# Altium schematic symbol library SENSORS.SchLib: 5 symbols
Pins are listed as number, name and electrical type; pins without a type are passive.

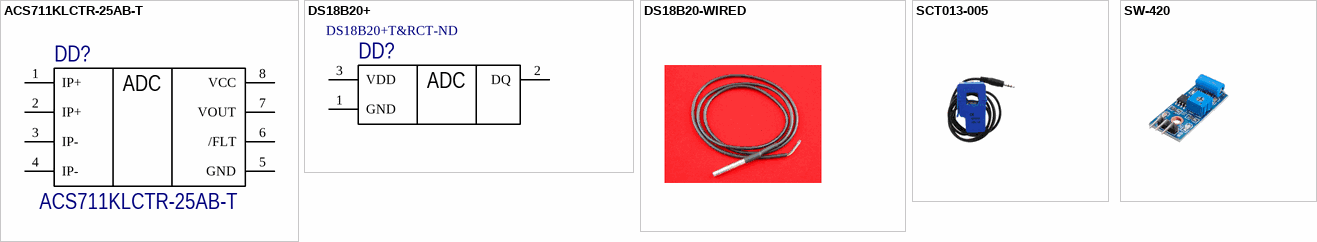
[diagram p0: symbols ACS711KLCTR-25AB-T to SW-420]

## ACS711KLCTR-25AB-T
designator DD?
Hall Effect Sensor Latch 3.3V 8-Pin SOIC T/R; Manufacturer: Allegro MicroSystems; TH: 1; Max Supply Current: 5.5mA; Bandwidth: 100kHz; Min Supply Voltage: 3V; Max Supply Voltage: 5.5V; Response Time: 4.6us; Polarity: Bidirectional; Quiescent Current: 4mA; Linearity: 1%; Accuracy: 4%; Current Sensing: 25A; Sensitivity: 55mV/A; Manufacturer Part Number: ACS711KLCTR-25AB-T; Supplier 1: Digi-Key; RoHS: Yes; Category: Current Sensors; Stock 1: 3210; Pricing 1: 1=2,63000, 5=2,43800, 10=2,02500, 25=1,68760, 50=1,50000, 100=1,42500, 500=1,20000, 1000=1,12500 (USD); Case/Package: SOIC; Number of Pins: 8; Min Operating Temperature: -40°C; Max Operating Temperature: 125°C; Operating Supply Voltage: 3.3V; Package Quantity: 1; Number of Channels: 1; Frequency: 100kHz; -3db Bandwidth: 100kHz; Packaging: Tape and Reel; Length: 4.9mm; Width: 3.9mm; Height: 1.5mm; REACH SVHC: No SVHC; ComponentLink1URL: https://datasheet.ciiva.com/1165/1780806-1165091.pdf?src-supplier=Element14; ComponentLink1Description: https://datasheet.ciiva.com/1165/1780806-1165091.pdf?src-supplier=Element14; ComponentLink2URL: https://datasheet.ciiva.com/3277/acs711-datasheet-3277045.pdf?src-supplier=Avnet; ComponentLink2Description: https://datasheet.ciiva.com/3277/acs711-datasheet-3277045.pdf?src-supplier=Avnet; ComponentLink3URL: https://datasheet.ciiva.com/16636/acs711-datasheet-16636318.pdf?src-supplier=Avnet+Europe; ComponentLink3Description: https://datasheet.ciiva.com/16636/acs711-datasheet-16636318.pdf?src-supplier=Avnet+Europe; Supplier Part Number 1: 620-1373-1-ND
footprint SOIC127P600X175-8N (SOIC, 8-Leads, Body 4,90x3,90mm, Pitch 1,27mm, IPC Medium Density)
pins: 1 IP+, 2 IP+, 3 IP-, 4 IP-, 5 GND, 6 /FLT, 7 VOUT, 8 VCC
text: ADC

## DS18B20+
designator DD?  Supplier Part Number 1: DS18B20+T&RCT-ND
SENSOR DIGITAL -55C-125C TO92-3; Manufacturer: Maxim Integrated; TH: 1; Description: GLOVE, POLYAMIDE, L/FREE, PU, SIZE 6 - More Details; Max Supply Voltage: 5.5V; Min Supply Voltage: 3V; Interface: 1-WIRE,Serial; Resolution: 12b; Operating Supply Current: 1.5mA; Manufacturer Part Number: DS18B20+; Supplier 1: Digi-Key; RoHS: Yes; Category: Temperature and Humidity Sensors; Stock 1: 10974; Pricing 1: 1=4,20000, 10=3,77000, 25=3,56400, 100=3,08880, 500=2,62944, 1000=2,21760 (USD); Mount: Through Hole; Case/Package: TO-92-3; Number of Pins: 3; Contact Plating: Tin,Matte; Min Operating Temperature: -55°C; Max Operating Temperature: 125°C; Packaging: Tape and Reel; Package Quantity: 1; Max Supply Voltage (DC): 5.5V; Min Supply Voltage (DC): 3V; Output Type: Digital; Series: -; Supply Current: 1.5mA; Radiation Hardening: No; REACH SVHC: Unknown; Lead Free: Lead Free; RoHS Compliant: Yes; ComponentLink1URL: https://datasheet.ciiva.com/2005/ds18b20-2005157.pdf?src-supplier=Digi-Key; ComponentLink1Description: https://datasheet.ciiva.com/2005/ds18b20-2005157.pdf?src-supplier=Digi-Key; ComponentLink2URL: https://datasheet.ciiva.com/12147/ds18b20-370043-12147063.pdf?src-supplier=Mouser; ComponentLink2Description: https://datasheet.ciiva.com/12147/ds18b20-370043-12147063.pdf?src-supplier=Mouser; ComponentLink3URL: https://datasheet.ciiva.com/5299/ds18b20-370043-5299449.pdf?src-supplier=Mouser; ComponentLink3Description: https://datasheet.ciiva.com/5299/ds18b20-370043-5299449.pdf?src-supplier=Mouser; ComponentLink4URL: https://datasheet.ciiva.com/3278/ds18b20-3278459.pdf?src-supplier=Avnet; ComponentLink4Description: https://datasheet.ciiva.com/3278/ds18b20-3278459.pdf?src-supplier=Avnet; ComponentLink5URL: https://datasheet.ciiva.com/16635/ds18b20-16635310.pdf?src-supplier=Avnet+Europe; ComponentLink5Description: https://datasheet.ciiva.com/16635/ds18b20-16635310.pdf?src-supplier=Avnet+Europe
footprint TO-226-3, TO-92-3 (TO-226AA)
pins: 1 GND, 2 DQ, 3 VDD
text: ADC

## DS18B20-WIRED
designator DD?  (mechanical)
WATERPROOF DS18B20 DIGITAL TEMPE; Manufacturer: DFRobot; TH: 1; Manufacturer Part Number: DS18B20

## SCT013-005
designator X?  (mechanical)
SENSOR CURRENT TRANSFORMER 5A/1V; Manufacturer: PowerUC.pl; Manufacturer Part Number: SCT013-005

## SW-420
designator X?  (mechanical)
SHAKE SENSOR; Manufacturer: China; Manufacturer Part Number: SW-420